# EAGLE library part SN74*125 (library be_driver)
quad buffer tristate device edited: Mario Blunk / Blunk electronic
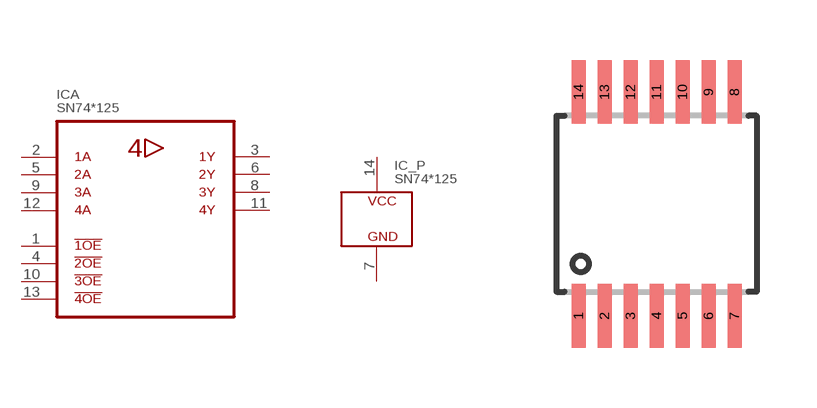
[diagram p0: symbol with the pads of S_TSSOP14; footprint S_TSSOP14]

Designator prefix IC; gates A=QUAD_TRISTATE _P=PWR

## SN74LVC125-APW (BOM: YES; COMMISSIONED: 2013-03-25; PART_CODE_BEL: IC_PAC_S_TSSOP14_VAL_)  [S_TSSOP14]
1  A:1~OE  in
2  A:1A  in
3  A:1Y  out
4  A:2~OE  in
5  A:2A  in
6  A:2Y  out
7  _P:GND  pwr
8  A:3Y  out
9  A:3A  in
10  A:3~OE  in
11  A:4Y  out
12  A:4A  in
13  A:4~OE  in
14  _P:VCC  pwr

## Footprint S_TSSOP14 (pad centres in mm)
edited: Mario Blunk / Blunk electronic date: 2013-03-22
smd 0.35 x 1.6: 1 -1.95,-2.8; 2 -1.3,-2.8; 3 -0.65,-2.8; 4 0,-2.8; 5 0.65,-2.8; 6 1.3,-2.8; 7 1.95,-2.8; 8 1.95,2.8; 9 1.3,2.8; 10 0.65,2.8; 11 0,2.8; 12 -0.65,2.8; 13 -1.3,2.8; 14 -1.95,2.8